# Altium footprint library Antenna.PcbLib: 4 footprints
Each footprint in its own frame and in the unit in brackets; x right, y up, seen from the top. Pads: shape width x height; smd on the part's side, far side on the other; paste and mask are expansions set on the pad; w line width, h text height; cw(c..) or ccw(c..) is an arc to the next point about the centre after c.
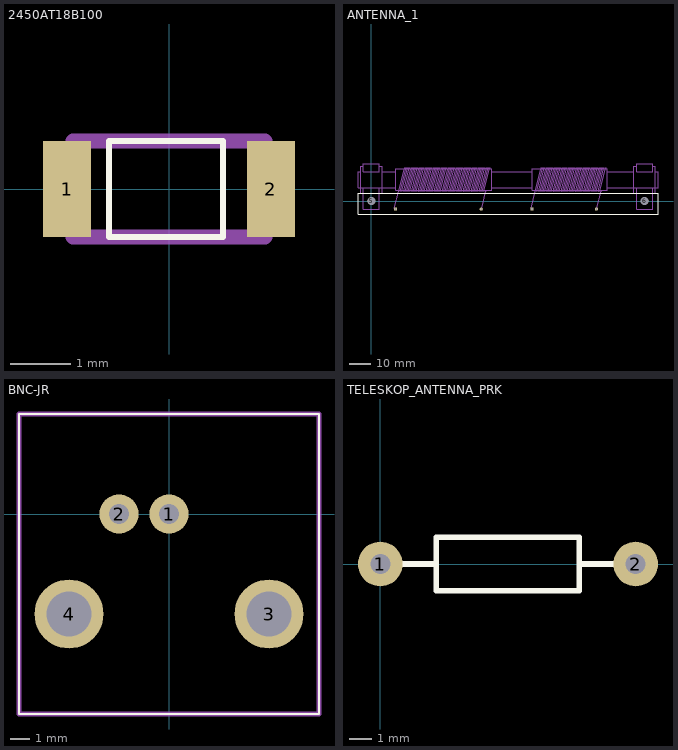
[diagram p0: the footprints below, top view; thin cyan lines are the x and y axes]

## 2450AT18B100 [mm]
pads (2):
  rect 0.8x1.6 smd: 1(-1.7,0) 2(1.7,0)
Top Overlay:
  lines w0.1: -1,-0.8 0.9,-0.8 0.9,0.8 -1,0.8 -1,-0.8
Mechanical 1:
  lines w0.25: -1.6,-0.8 1.6,-0.8 1.6,0.8 -1.6,0.8 -1.6,-0.8

## ANTENNA_1 [mm]
pads (6):
  rect 1.5x1.5 hole 0.8: 1(11.25,-3.75) 3(75,-3.75)
  round 1.5 hole 0.8: 2(51.25,-3.75) 4(105,-3.75)
  round 3.6 hole 3.6 unplated: 5(0,0) 6(127.5,0)
Top Overlay:
  lines w0.1: -6.25,-6.25 133.75,-6.25 133.75,-5 133.75,3.75 -5,3.75 -6.25,3.75 -6.25,-6.25
Mechanical 1:
  drawing of 334 lines, arcs and shapes, not listed
  text "L2" at 87.5,-1.25 h1.63
  text "L1" at 28.75,0 h1.63

## BNC-JR [mm]
pads (4):
  round 2 hole 1: 1(0,0) 2(-2.54,0)
  round 3.5 hole 2.3: 3(5.08,-5.08) 4(-5.08,-5.08)
Top Overlay:
  lines w0.1: -7.62,-10.16 7.62,-10.16 7.62,5.08 -7.62,5.08 -7.62,-10.16
Mechanical 1:
  lines w0.25: -7.62,-10.16 7.62,-10.16 7.62,5.08 -7.62,5.08 -7.62,-10.16

## TELESKOP_ANTENNA_PRK [mm]
pads (2):
  round 2 hole 0.9: 1(0,0) 2(11.43,0)
Top Overlay:
  lines w0.1: -0.635,0 0,0 ; 0,-0.635 0,0.635 ; 11.4,0 12.065,0 ; 11.43,-0.635 11.43,0.635
  lines w0.254: 0,0 2.5,0 ; 8.9,0 11.4,0 ; 2.5,-1.2 8.9,-1.2 8.9,1.2 2.5,1.2 2.5,-1.2